# EAGLE library part GENERIC (library mynixies)
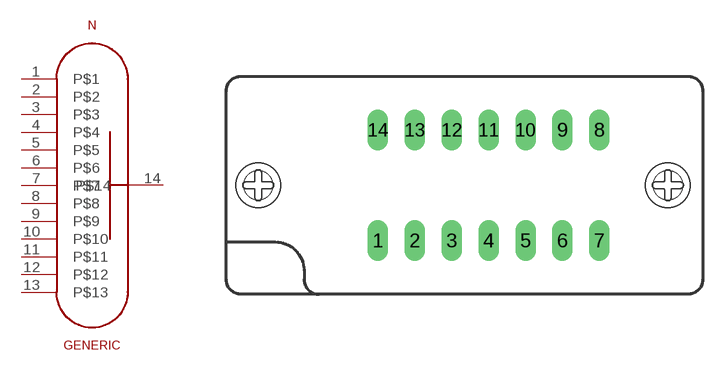
[diagram p6: symbol with the pads of 214-3339-00-0602J; footprint 214-3339-00-0602J]

Designator prefix N

## GENERICZIF  [214-3339-00-0602J]
1  P$1  pas
2  P$2  pas
3  P$3  pas
4  P$4  pas
5  P$5  pas
6  P$6  pas
7  P$7  pas
8  P$8  pas
9  P$9  pas
10  P$10  pas
11  P$11  pas
12  P$12  pas
13  P$13  pas
14  P$14  pas

## Footprint 214-3339-00-0602J (pad centres in mm)
3M TEXTOOL 14 pol. DIP Lever actuated zero insertion force mechanism Hersteller: 3M TEXTOOL Herstellerbez.: 214-3339-00-0602J Farnell Best.-Nr.: 4666290 Source: http://www.3M.com/ehpd
drill 0.9 long: 1 -7.62,-3.81; 2 -5.08,-3.81; 3 -2.54,-3.81; 4 0,-3.81; 5 2.54,-3.81; 6 5.08,-3.81; 7 7.62,-3.81; 8 7.62,3.81; 9 5.08,3.81; 10 2.54,3.81; 11 0,3.81; 12 -2.54,3.81; 13 -5.08,3.81; 14 -7.62,3.81
hole 2 at 12.35,0
hole 2 at -15.85,0